# Altium schematic symbol library LAN8720A.SchLib: 1 symbol
Pins are listed as number, name and electrical type; pins without a type are passive.

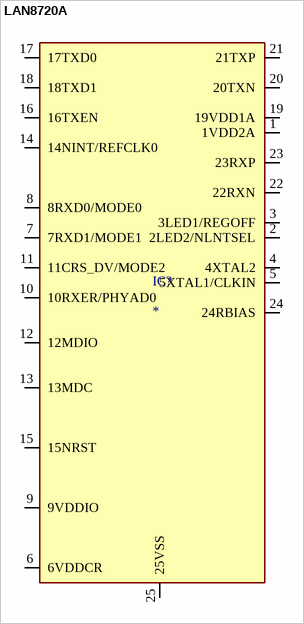
[diagram p0: symbol LAN8720A]

## LAN8720A
designator IC?
2/2 Transceiver Full RMII 24-SQFN (4x4); MF: SMSC; MP: LAN8720A; SnapEDA_Link: https://www.snapeda.com/parts/LAN8720A/SMSC/view-part/?ref=snap; Package: QFN-24 SMSC; Value: *; Check_prices: https://www.snapeda.com/parts/LAN8720A/SMSC/view-part/?ref=eda
footprint LAN8720A
pins: 1 1VDD2A, 2 2LED2/NLNTSEL, 3 3LED1/REGOFF, 4 4XTAL2, 5 5XTAL1/CLKIN, 6 6VDDCR, 7 7RXD1/MODE1, 8 8RXD0/MODE0, 9 9VDDIO, 10 10RXER/PHYAD0, 11 11CRS_DV/MODE2, 12 12MDIO, 13 13MDC, 14 14NINT/REFCLK0, 15 15NRST, 16 16TXEN, 17 17TXD0, 18 18TXD1, 19 19VDD1A, 20 20TXN, 21 21TXP, 22 22RXN, 23 23RXP, 24 24RBIAS, 25 25VSS